# Altium footprint library Conn_Zif_Socket.PcbLib: 1 footprints
Each footprint in its own frame and in the unit in brackets; x right, y up, seen from the top. Pads: shape width x height; smd on the part's side, far side on the other; paste and mask are expansions set on the pad; w line width, h text height; cw(c..) or ccw(c..) is an arc to the next point about the centre after c.
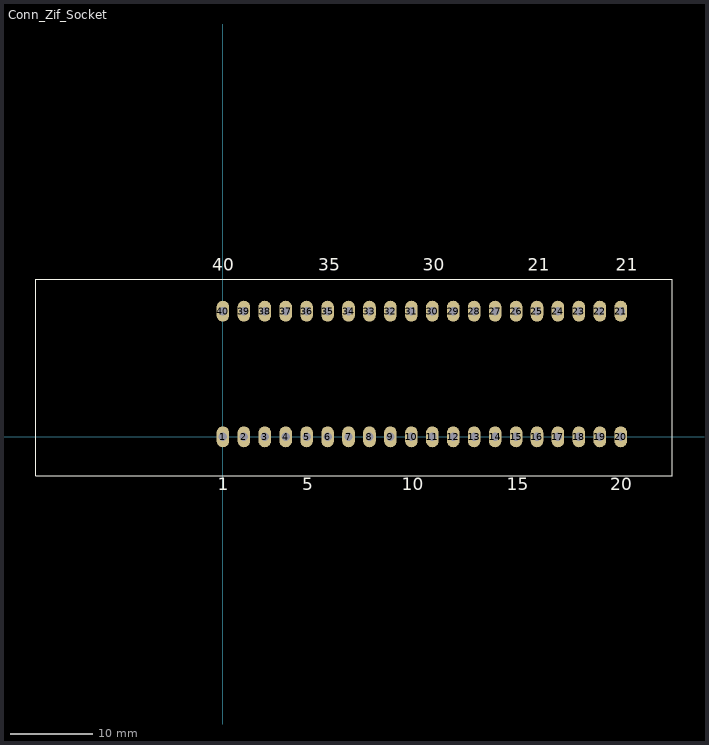
[diagram p0: the footprint, top view; thin cyan lines are the x and y axes]

## Conn_Zif_Socket [mil]
pads (40):
  oval 60x100 hole 40: 1(0,0) 2(100,0) 3(200,0) 4(300,0) 5(400,0) 6(500,0) 7(600,0) 8(700,0) 9(800,0) 10(900,0) 11(1000,0) 12(1100,0) 13(1200,0) 14(1300,0) 15(1400,0) 16(1500,0) 17(1600,0) 18(1700,0) 19(1800,0) 20(1900,0) 21(1900,600) 22(1800,600) 23(1700,600) 24(1600,600) 25(1500,600) 26(1400,600) 27(1300,600) 28(1200,600) 29(1100,600) 30(1000,600) 31(900,600) 32(800,600) 33(700,600) 34(600,600) 35(500,600) 36(400,600) 37(300,600) 38(200,600) 39(100,600) 40(0,600)
Top Overlay:
  lines w5: -893.39,-186.83 2145.63,-186.83 2145.63,752.77 -893.39,752.77 -893.39,-186.83
  text "1" at -25,-275 h100
  text "20" at 1850,-275 h100
  text "5" at 380,-275 h100
  text "10" at 855,-275 h100
  text "15" at 1355,-275 h100
  text "21" at 1875,775 h100
  text "40" at -50,775 h100
  text "21" at 1455,775 h100
  text "30" at 955,775 h100
  text "35" at 455,775 h100
Bottom Overlay:
  lines w5: -893.39,-186.83 2145.63,-186.83 2145.63,752.77 -893.39,752.77 -893.39,-186.83
  text "35" at 545,460 h100
  text "30" at 1045,460 h100
  text "25" at 1550,460 h100
  text "15" at 1450.37,75 h100
  text "10" at 945,75 h100
  text "5" at 420,75 h100
  text "40" at 48.42,460 h100
  text "21" at 1945,460 h100
  text "20" at 1945,75 h100
  text "1" at 20,75 h100
3D body: height 433.07, standoff -196.85, extent -893.39,-186.83 2145.63,752.77